# EAGLE library part NAV-SWITCH-5WAY (library SKAARHOJ)
For use with a push-button switch made by CnK components. The Part # is
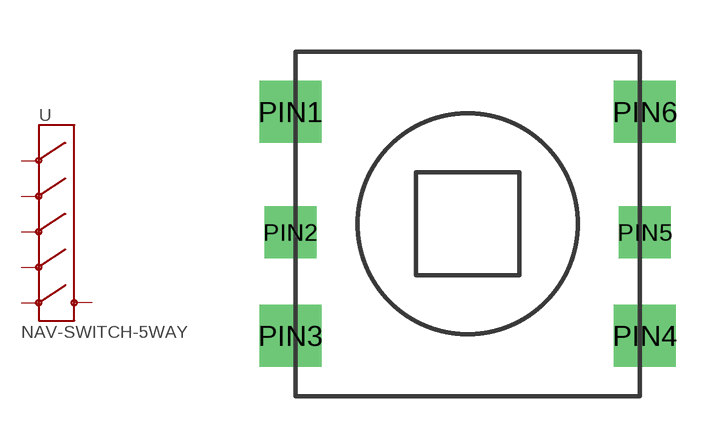
[diagram p12: symbol with the pads of NAV-SWITCH-5WAY; footprint NAV-SWITCH-5WAY]

Designator prefix -

## NAV-SWITCH-5WAYCNK_LOCK  [NAV-SWITCH-5WAY]
PIN1  UP
PIN2  LEFT
PIN3  DWN
PIN4  COMMON
PIN5  RIGHT
PIN6  PUSH

## Footprint NAV-SWITCH-5WAY (pad centres in mm)
drill 1.2 square: PIN1 -5.15,3.25; PIN3 -5.15,-3.25; PIN4 5.15,-3.25; PIN6 5.15,3.25
drill 1 square: PIN2 -5.15,-0.25; PIN5 5.15,-0.25